# EAGLE library part 2X5-PHEADER (library linelib)
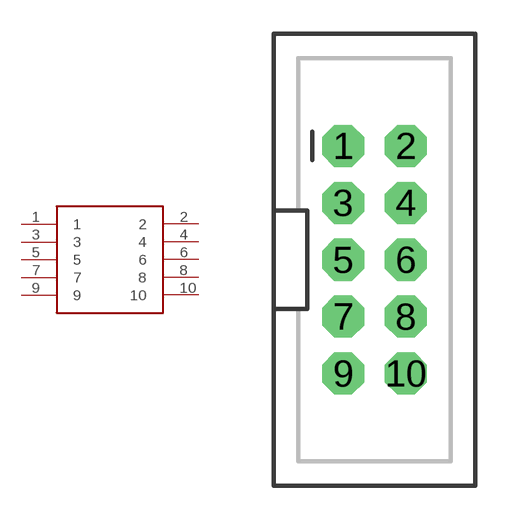
[diagram p0: symbol with the pads of 2X5-SHROUDED-HEADER; footprint 2X5-SHROUDED-HEADER]

Designator prefix -

## 2X5-PHEADER  [2X5-SHROUDED-HEADER]
1  1
2  2
3  3
4  4
5  5
6  6
7  7
8  8
9  9
10  10

## Footprint 2X5-SHROUDED-HEADER (pad centres in mm)
drill 1.016 pad 1.88 octagon: 1 3.683,15.24; 2 6.477,15.24; 3 3.683,12.7; 4 6.477,12.7; 5 3.683,10.16; 6 6.477,10.16; 7 3.683,7.62; 8 6.477,7.62; 9 3.683,5.08; 10 6.477,5.08